# Altium schematic symbol library RCL.SchLib: 10 symbols
Pins are listed as number, name and electrical type; pins without a type are passive.

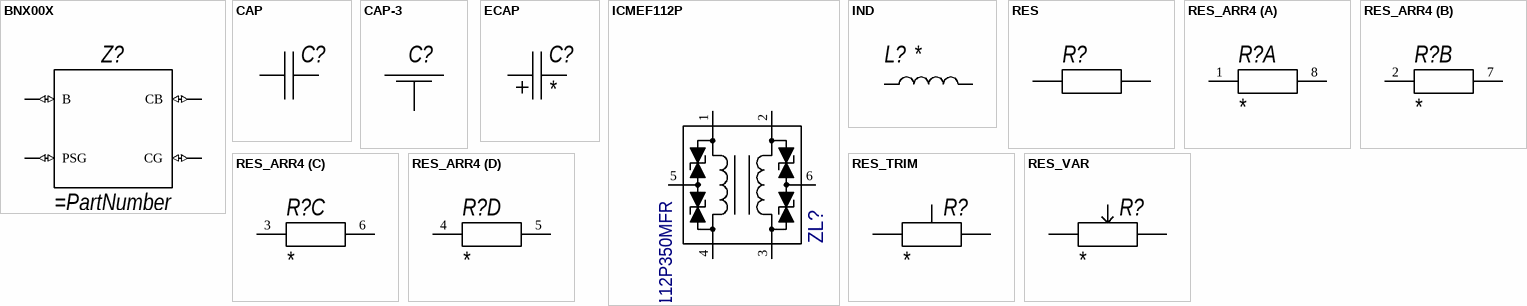
[diagram p0: symbols BNX00X to RES_VAR]

## BNX00X
designator Z?
pins: B (io), CB (io), CG (io), PSG (io)

## CAP
designator C?
CAPACITOR GOST
pins: 1, 2

## CAP-3
designator C?
Конденсатор проходной
pins: 1, 2, 3

## ECAP
designator C?
CAPACITOR POLARITY GOST; ValueSCH: *
pins: 1 +, 2 -

## ICMEF112P
designator ZL?, comment ICMEF112P350MFR
SMD Common Mode Filter; Manufacturer: Chilisin; Placement: +; Tmax, °C: 85°C; Tmin, °C: -40°C; ЕСКД: Ограничитель ICMEF112P350MFR; Категория: Ограничитель; Category: IC; Package: N\A; PartNumber: ICMEF112P350MFR
pins: 1, 2, 3, 4, 5, 6

## IND
designator L?
ValueSCH: *
pins: 1, 2

## RES
designator R?
pins: 1, 2

## RES_ARR4
designator R?
ValueSCH: *
part A pins: 1, 8 2
part B pins: 2 1, 7 2
part C pins: 3 1, 6 2
part D pins: 4 1, 5 2

## RES_TRIM
designator R?
ValueSCH: *
pins: 1 CW, 2 W, 3 CCW

## RES_VAR
designator R?
ValueSCH: *
pins: 1 CW, 2 W, 3 CCW